# EAGLE library part SM_1221_DI_8X24VDC (library e-sps)
SM 1221 DI 8 x 24 VDC Source: s71200_easy_book_de-DE_de-DE.pdf
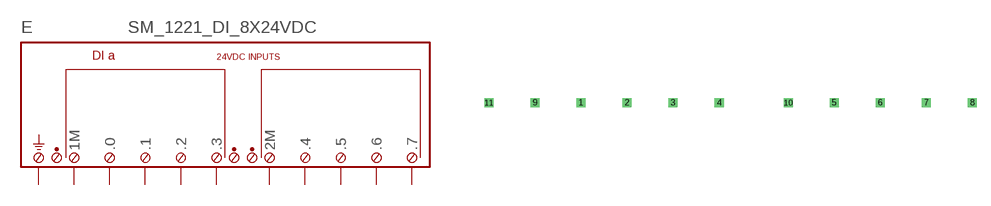
[diagram p6: symbol with the pads of SM_1221_DI_8X24VDC; footprint SM_1221_DI_8X24VDC]

Designator prefix E

## SM_1221_DI_8X24VDC  [SM_1221_DI_8X24VDC]
1  .0  pas
2  .1  pas
3  .2  pas
4  .3  pas
5  .4  pas
6  .5  pas
7  .6  pas
8  .7  pas
9  1M  pas
10  2M  pas
11  PE  pas

## Footprint SM_1221_DI_8X24VDC (pad centres in mm)
Dummy
drill 0.5 pad 1 square: 1 -17.78,-20.32; 2 -12.7,-20.32; 3 -7.62,-20.32; 4 -2.54,-20.32; 5 10.16,-20.32; 6 15.24,-20.32; 7 20.32,-20.32; 8 25.4,-20.32; 9 -22.86,-20.32; 10 5.08,-20.32; 11 -27.94,-20.32